# Altium footprint library DIP.PcbLib: 8 footprints
Each footprint in its own frame and in the unit in brackets; x right, y up, seen from the top. Pads: shape width x height; smd on the part's side, far side on the other; paste and mask are expansions set on the pad; w line width, h text height; cw(c..) or ccw(c..) is an arc to the next point about the centre after c.
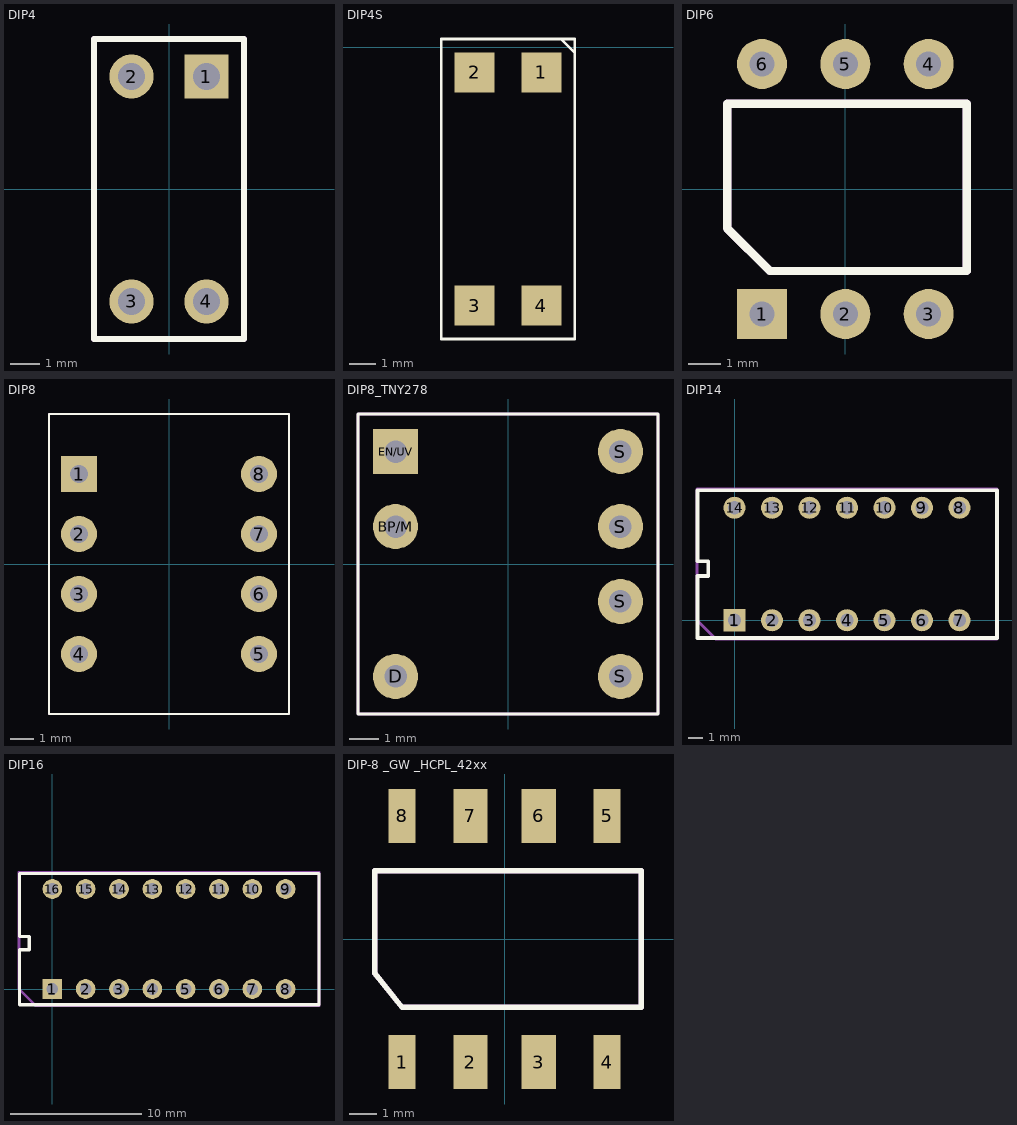
[diagram p0: the footprints below, top view; thin cyan lines are the x and y axes]

## DIP4 [mm]
pads (4):
  rect 1.5x1.5 hole 0.9: 1(1.27,3.81)
  round 1.5 hole 0.9: 2(-1.27,3.81) 3(-1.27,-3.81) 4(1.27,-3.81)
Top Overlay:
  lines w0.2: -2.54,-5.08 -2.54,5.08 2.54,5.08 2.54,-5.08 -2.54,-5.08
TopAssy:
  lines w0.2: -2.54,-5.08 2.54,-5.08 2.54,5.08 -2.54,5.08 -2.54,-5.08
  text ".Designator" at -1.27,1.27 h1.52
3D body "DIP4-7_62-2_54.STEP": height 4.3, standoff -2.7, extent -2.295,-3.94 2.295,3.94

## DIP4S [mil]
pads (4):
  rect 60x60 smd: 1(1172.05,-37.6) 2(1072.05,-37.6) 3(1072.05,-387.6) 4(1172.05,-387.6)
Top Overlay:
  lines w3.94: 1200.79,11.81 1202.36,11.81 1222.05,-7.87 ; 1022.05,-437.6 1222.05,-437.6 1222.05,12.4 1022.05,12.4 1022.05,-437.6
TopAssy:
  text ".Designator" at 1050,-200 h60
3D body "4-SMD.step": height 145.87, standoff -2.13, extent 1031.6,-412.6 1212.6,-12.6

## DIP6 [mil]
pads (6):
  rect 60x60 hole 30: 1(-100,-150)
  round 60 hole 30: 2(0,-150) 3(100,-150) 4(100,150) 5(0,150) 6(-100,150)
Top Overlay:
  lines w10: -141.73,-47.24 -90.55,-98.43 145.67,-98.43 145.67,102.36 -141.73,102.36 -141.73,-47.24
TopAssy:
  lines w10: -141.73,-47.24 -141.73,102.36 145.67,102.36 145.67,-98.43 -90.55,-98.43 -141.73,-47.24
3D body "DIP6-White.STEP": height 208.66, standoff -78.74, extent -140.16,-150 140.16,159.84

## DIP8 [mil]
pads (8):
  rect 60x60 hole 30: 1(-150,150)
  round 60 hole 30: 2(-150,50) 3(-150,-50) 4(-150,-150) 5(150,-150) 6(150,-50) 7(150,50) 8(150,150)
Top Overlay:
  lines w3.94: -200,-250 -200,250 200,250 200,-250 -200,-250
TopAssy:
  lines w3.94: -200,-250 200,-250 200,250 -200,250 -200,-250
  text ".Designator" at -50,-50 h39.37
3D body "DIP8.STEP": height 165, standoff -105, extent -155,-225 155,225

## DIP8_TNY278 [mil]
pads (7):
  round 60 hole 30: BP/M(-150,50) D(-150,-150) S(150,-150) S(150,-50) S(150,50) S(150,150)
  rect 60x60 hole 30: EN/UV(-150,150)
Top Overlay:
  lines w3.94: -200,-200 200,-200 200,200 -200,200 -200,-200
TopAssy:
  lines w3.94: -200,-200 -200,200 200,200 200,-200 -200,-200
  text ".Designator" at -50,-50 h39.37
3D body "DIP-8 for TNY-1.step": height 171.65, standoff -118.11, extent -154.92,-185.04 154.93,185.04

## DIP14 [mm]
pads (14):
  rect 1.5x1.5 hole 0.9: 1(0,0)
  round 1.5 hole 0.9: 2(2.54,0) 3(5.08,0) 4(7.62,0) 5(10.16,0) 6(12.7,0) 7(15.24,0) 8(15.24,7.62) 9(12.7,7.62) 10(10.16,7.62) 11(7.62,7.62) 12(5.08,7.62) 13(2.54,7.62) 14(0,7.62)
Top Overlay:
  lines w0.254: -2.5,-1.2 -2.5,3 -1.77,3 -1.77,4 -2.5,4 -2.5,8.8 17.78,8.8 17.78,-1.2 -2.5,-1.2
TopAssy:
  lines w0.2: -2.54,0 -2.54,8.89 17.78,8.89 17.78,-1.27 -1.27,-1.27 -2.54,0
  text ".Designator" at 6.35,3.81 h1.52
3D body "DIP14.STEP": height 4.01, standoff -2.97, extent -1.905,-0.19 17.145,7.81

## DIP16 [mm]
pads (16):
  rect 1.5x1.5 hole 0.9: 1(0,0)
  round 1.5 hole 0.9: 2(2.54,0) 3(5.08,0) 4(7.62,0) 5(10.16,0) 6(12.7,0) 7(15.24,0) 8(17.78,0) 9(17.78,7.62) 10(15.24,7.62) 11(12.7,7.62) 12(10.16,7.62) 13(7.62,7.62) 14(5.08,7.62) 15(2.54,7.62) 16(0,7.62)
Top Overlay:
  lines w0.254: -2.5,-1.2 -2.5,3 -1.77,3 -1.77,4 -2.5,4 -2.5,8.8 20.32,8.8 20.32,-1.2 -2.5,-1.2
TopAssy:
  lines w0.2: -2.54,0 -2.54,8.89 20.32,8.89 20.32,-1.27 -1.27,-1.27 -2.54,0
  text ".Designator" at 6.35,3.81 h1.52
3D body "DIP16.STEP": height 4.19, standoff -2.57, extent -1.905,-0.254 19.685,7.62

## DIP-8 _GW _HCPL_42xx [mm]
pads (8):
  rect 1x2 smd: 1(-3.81,-4.572) 4(3.81,-4.572) 5(3.81,4.572) 8(-3.81,4.572)
  rect 1.27x2 smd: 2(-1.27,-4.572) 3(1.27,-4.572) 6(1.27,4.572) 7(-1.27,4.572)
Top Overlay:
  lines w0.2: -4.826,-1.27 -4.826,2.54 5.08,2.54 5.08,-2.54 -3.81,-2.54 -4.826,-1.27
TopAssy:
  lines w0.2: -4.826,-1.27 -4.826,2.54 5.08,2.54 5.08,-2.54 -2.54,-2.54 -3.81,-2.54 -4.826,-1.27
  text ".Designator" at -3.048,-0.508 h1.52
3D body "8-pin-DIP_GW_HCPL-4200-300E.step": height 4.3, standoff -0.03, extent -4.82,-4.95 5.08,4.95